# EAGLE library part MICRO_SD_CARD_MODULE (library AB_MICRO_SD_CARD_READER _MODULE)
Micro SD card Reader Module Created by Aadesh Borate Features : Input voltage : 5V SPI Control Interface Size: 45 mm x 28 mm Buy this module at Robu.in <https://robu.in/product/micro-sd-card-module/> <
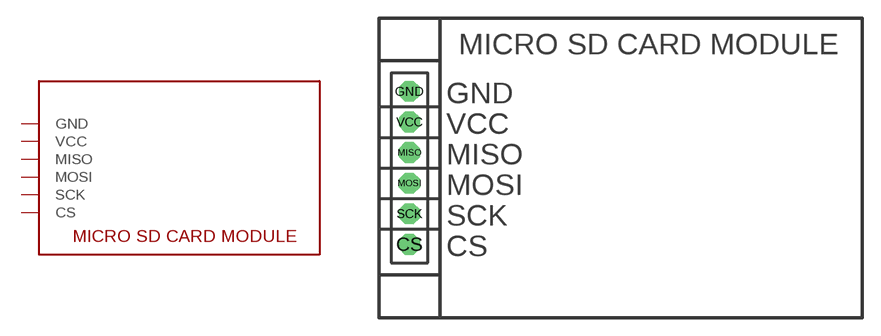
[diagram p0: symbol with the pads of MICRO_SD_CARD_MODULE; footprint MICRO_SD_CARD_MODULE]

Designator prefix -

## MICRO_SD_CARD_MODULE  [MICRO_SD_CARD_MODULE]
CS  CS
GND  GND
MISO  MISO
MOSI  MOSI
SCK  SCK
VCC  VCC

## Footprint MICRO_SD_CARD_MODULE (pad centres in mm)
Micro SD card Reader Module Created by Aadesh Borate Features : Input voltage : 5V SPI Control Interface Size: 45 mm x 28 mm Buy this module at Robu.in <https://robu.in/product/micro-sd-card-module/> <
drill 1.143 octagon: CS -19.304,-6.096; GND -19.304,6.604; MISO -19.304,1.524; MOSI -19.304,-1.016; SCK -19.304,-3.556; VCC -19.304,4.064